# Altium footprint library customParts.PcbLib: 4 footprints
Each footprint in its own frame and in the unit in brackets; x right, y up, seen from the top. Pads: shape width x height; smd on the part's side, far side on the other; paste and mask are expansions set on the pad; w line width, h text height; cw(c..) or ccw(c..) is an arc to the next point about the centre after c.
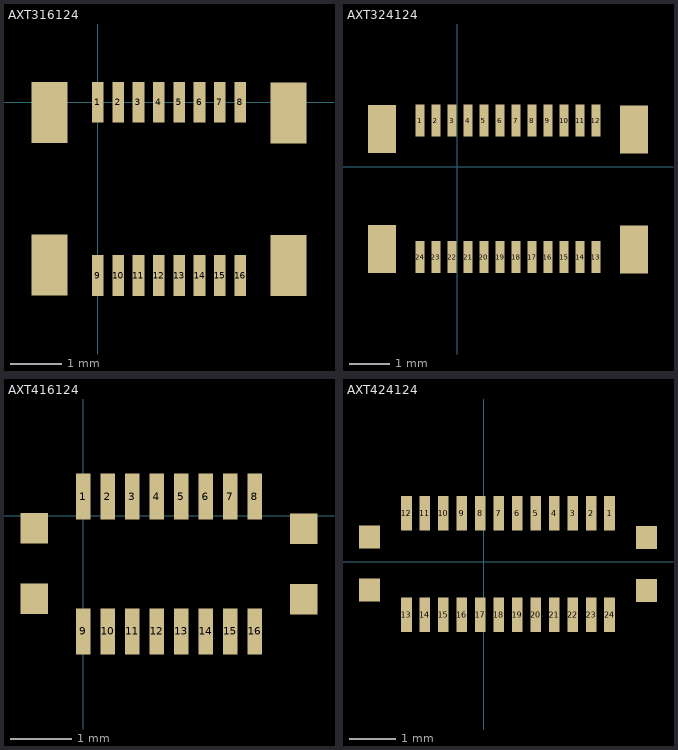
[diagram p0: the footprints below, top view; thin cyan lines are the x and y axes]

## AXT316124 [mm]
pads (20):
  rect 0.23x0.8 smd mask+0.102: 1(0,0) 2(0.4,0) 3(0.8,0) 4(1.2,0) 5(1.6,0) 6(2,0) 7(2.4,0) 8(2.8,0)
  rect 0.23x0.8 smd: 9(0,-3.41) 10(0.4,-3.41) 11(0.8,-3.41) 12(1.2,-3.41) 13(1.6,-3.41) 14(2,-3.41) 15(2.4,-3.41) 16(2.8,-3.41)
  rect 0.7x1.2 smd: ""(-0.95,-3.205) ""(-0.95,-0.205) ""(3.75,-3.215) ""(3.75,-0.215)

## AXT324124 [mm]
pads (28):
  rect 0.23x0.8 smd mask+0.102: 1(-0.925,1.155) 2(-0.525,1.155) 3(-0.125,1.155) 4(0.275,1.155) 5(0.675,1.155) 6(1.075,1.155) 7(1.475,1.155) 8(1.875,1.155) 9(2.275,1.155) 10(2.675,1.155) 11(3.075,1.155) 12(3.475,1.155)
  rect 0.23x0.8 smd: 13(3.475,-2.255) 14(3.075,-2.255) 15(2.675,-2.255) 16(2.275,-2.255) 17(1.875,-2.255) 18(1.475,-2.255) 19(1.075,-2.255) 20(0.675,-2.255) 21(0.275,-2.255) 22(-0.125,-2.255) 23(-0.525,-2.255) 24(-0.925,-2.255)
  rect 0.7x1.2 smd: ""(-1.875,-2.05) ""(-1.875,0.95) ""(4.425,-2.06) ""(4.425,0.94)

## AXT416124 [mm] "male header 16 pins"
pads (20):
  rect 0.23x0.75 smd mask+0.102: 1(0,0.31) 2(0.4,0.31) 3(0.8,0.31) 4(1.2,0.31) 5(1.6,0.31) 6(2,0.31) 7(2.4,0.31) 8(2.8,0.31)
  rect 0.23x0.75 smd: 9(0,-1.89) 10(0.4,-1.89) 11(0.8,-1.89) 12(1.2,-1.89) 13(1.6,-1.89) 14(2,-1.89) 15(2.4,-1.89) 16(2.8,-1.89)
  rect 0.45x0.5 smd: ""(-0.8,-1.355) ""(-0.8,-0.205) ""(3.6,-1.365) ""(3.6,-0.215)

## AXT424124 [mm] "24 pin 0.4mm pitch"
pads (28):
  rect 0.23x0.75 smd: 1(2.725,1.05) 2(2.325,1.05) 3(1.925,1.05) 4(1.525,1.05) 5(1.125,1.05) 6(0.725,1.05) 7(0.325,1.05) 8(-0.075,1.05) 9(-0.475,1.05) 10(-0.875,1.05) 11(-1.275,1.05) 12(-1.675,1.05) 13(-1.675,-1.15) 14(-1.275,-1.15) 15(-0.875,-1.15) 16(-0.475,-1.15) 17(-0.075,-1.15) 18(0.325,-1.15) 19(0.725,-1.15) 20(1.125,-1.15) 21(1.525,-1.15) 22(1.925,-1.15) 23(2.325,-1.15) 24(2.725,-1.15)
  rect 0.45x0.5 smd: ""(-2.475,-0.615) ""(-2.475,0.535) ""(3.525,-0.625) ""(3.525,0.525)